# Altium footprint library STEREO_JACK_SW_ALLASH.PcbLib: 1 footprints
Each footprint in its own frame and in the unit in brackets; x right, y up, seen from the top. Pads: shape width x height; smd on the part's side, far side on the other; paste and mask are expansions set on the pad; w line width, h text height; cw(c..) or ccw(c..) is an arc to the next point about the centre after c.
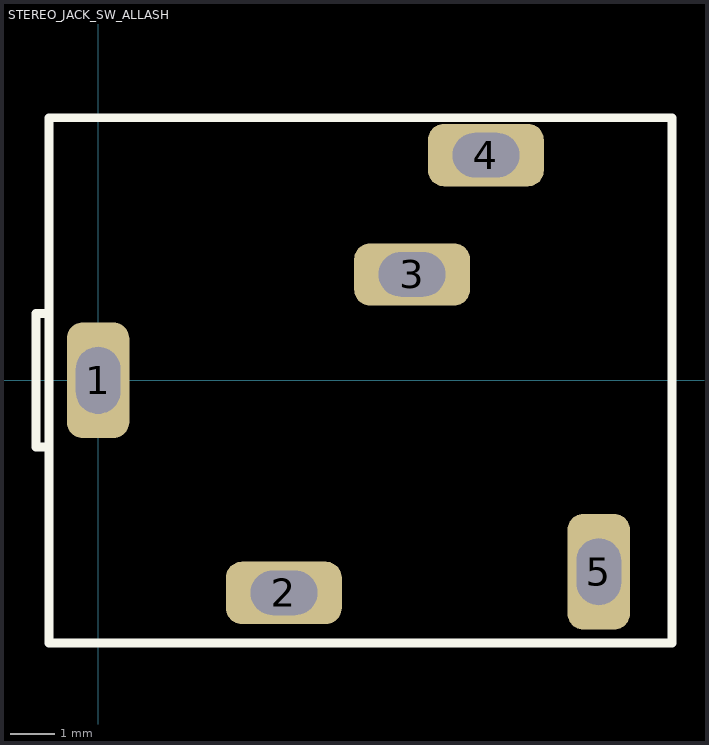
[diagram p0: the footprint, top view; thin cyan lines are the x and y axes]

## STEREO_JACK_SW_ALLASH [mm]
pads (5):
  rrect50% 1.4x2.6 hole 1 slot 1.5 at 90 deg: 1(0,0) 5(11.25,-4.3)
  rrect50% 2.6x1.4 hole 1 slot 1.5 at 0 deg: 2(4.175,-4.775) 3(7.055,2.38) 4(8.715,5.06)
Top Overlay:
  lines w0.2: -1.1,-1.5 -1.4,-1.5 -1.4,1.5 -1.1,1.5 ; -1.1,-5.9 -1.1,5.9 12.9,5.9 12.9,-5.9 -1.1,-5.9